# EAGLE library part HEADER_POS14_? (library con-molex-micro-fit-3_0)
Molex - Micro-Fit 3.0 Series connector, 3.00mm (0.118") pitch header, 14 positions.
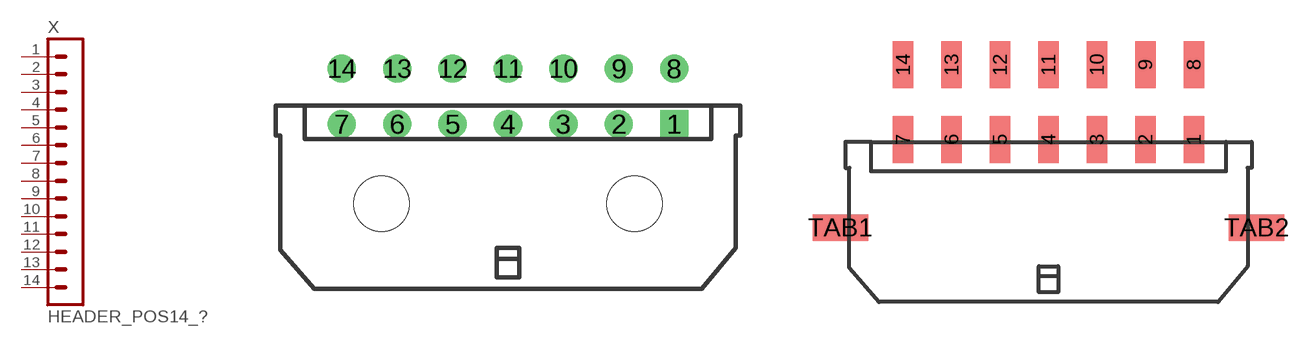
[diagram p7: symbol with the pads of 43045-1400; footprints 43045-1400, 43045-1409]

Designator prefix X

## HEADER_POS14_43045-1400  [43045-1400]
1  1  pas
2  2  pas
3  3  pas
4  4  pas
5  5  pas
6  6  pas
7  7  pas
8  8  pas
9  9  pas
10  10  pas
11  11  pas
12  12  pas
13  13  pas
14  14  pas

## HEADER_POS14_43045-1409  [43045-1409]
Pads as for 43045-1400

## HEADER_POS14_43045-1406  [43045-1406]
Pads as for 43045-1400

## HEADER_POS14_43045-1412  [43045-1412]
Pads as for 43045-1400

## HEADER_POS14_43045-1415  [43045-1415]
Pads as for 43045-1400

## HEADER_POS14_43045-1418  [43045-1418]
Pads as for 43045-1400

## HEADER_POS14_44914-1401  [44914-1401]
Pads as for 43045-1400

## HEADER_POS14_44769-1401  [44769-1401]
Pads as for 43045-1400

## HEADER_POS14_44432-1401  [44432-1401]
Pads as for 43045-1400

## HEADER_POS14_44428-1401  [44428-1401]
Pads as for 43045-1400

## HEADER_POS14_44764-1401  [44764-1401]
Pads as for 43045-1400

## Footprint 43045-1400 (pad centres in mm)
Molex Micro-Fit 3.0 - Header Shrouded, Thru hole, Right Angle; P/N: SD-43045-1400, SD-43045-1401, SD-43045-1402 http://www.molex.com/pdm_docs/sd/430450200_sd.pdf
drill 1.02 square: 1 9,4.32
drill 1.02: 2 6,4.32; 3 3,4.32; 4 0,4.32; 5 -3,4.32; 6 -6,4.32; 7 -9,4.32; 8 9,7.32; 9 6,7.32; 10 3,7.32; 11 0,7.32; 12 -3,7.32; 13 -6,7.32; 14 -9,7.32
hole 3 at 6.85,0
hole 3 at -6.85,0

## Footprint 43045-1409 (pad centres in mm)
Molex Micro-Fit 3.0 - Header Shrouded, Surface mount, Right Angle, Solderable tabs; P/N: SD-43045-1409, SD-43045-1410, SD-43045-1411 http://www.molex.com/pdm_docs/sd/430450209_sd.pdf
smd 1.27 x 2.92: 1 9,5.47; 2 6,5.47; 3 3,5.47; 4 0,5.47; 5 -3,5.47; 6 -6,5.47; 7 -9,5.47; 8 9,10.1; 9 6,10.1; 10 3,10.1; 11 0,10.1; 12 -3,10.1; 13 -6,10.1; 14 -9,10.1
smd 3.43 x 1.65: TAB1 -12.88,0; TAB2 12.88,0

## Footprint 43045-1406 (pad centres in mm)
Molex Micro-Fit 3.0 - Header Shrouded, Surface mount, Right Angle, Solderable Retention clips; P/N: SD-43045-1406, SD-43045-1407, SD-43045-1408 http://www.molex.com/pdm_docs/sd/430450206_sd.pdf
smd 1.27 x 2.92: 1 9,5.47; 2 6,5.47; 3 3,5.47; 4 0,5.47; 5 -3,5.47; 6 -6,5.47; 7 -9,5.47; 8 9,10.1; 9 6,10.1; 10 3,10.1; 11 0,10.1; 12 -3,10.1; 13 -6,10.1; 14 -9,10.1
hole 2.41 at -11.15,0
hole 2.41 at 11.15,0

## Footprint 43045-1412 (pad centres in mm)
Molex Micro-Fit 3.0 - Header Shrouded, Thru hole, Vertical, with Pegs; P/N: SD-43045-1412, SD-43045-1413, SD-43045-1414 http://www.molex.com/pdm_docs/sd/430450212_sd.pdf
drill 1.02 square: 1 9,0
drill 1.02: 2 6,0; 3 3,0; 4 0,0; 5 -3,0; 6 -6,0; 7 -9,0; 8 9,3; 9 6,3; 10 3,3; 11 0,3; 12 -3,3; 13 -6,3; 14 -9,3
hole 1.02 at 12,3.94
hole 1.02 at -12,3.94

## Footprint 43045-1415 (pad centres in mm)
Molex Micro-Fit 3.0 - Header Shrouded, Surface mount, Vertical, with Solderable Retention Clips; P/N: SD-43045-1415, SD-43045-1416, SD-43045-1417 http://www.molex.com/pdm_docs/sd/430450215_sd.pdf
smd 1.27 x 2.54: 1 9,-4.7; 2 6,-4.7; 3 3,-4.7; 4 0,-4.7; 5 -3,-4.7; 6 -6,-4.7; 7 -9,-4.7; 8 9,4.7; 9 6,4.7; 10 3,4.7; 11 0,4.7; 12 -3,4.7; 13 -6,4.7; 14 -9,4.7
hole 2.41 at -11.15,0
hole 2.41 at 11.15,0

## Footprint 43045-1418 (pad centres in mm)
Molex Micro-Fit 3.0 - Header Shrouded, Surface mount, Vertical, with Solder Tabs; P/N: SD-43045-1418, SD-43045-1419, SD-43045-1420 http://www.molex.com/pdm_docs/sd/430450218_sd.pdf
smd 1.27 x 2.54: 1 9,-4.7; 2 6,-4.7; 3 3,-4.7; 4 0,-4.7; 5 -3,-4.7; 6 -6,-4.7; 7 -9,-4.7; 8 9,4.7; 9 6,4.7; 10 3,4.7; 11 0,4.7; 12 -3,4.7; 13 -6,4.7; 14 -9,4.7
smd 3.43 x 1.65: CLIP1 -12.88,0; CLIP2 12.88,0

## Footprint 44914-1401 (pad centres in mm)
Molex Micro-Fit 3.0 - Header Shrouded, Thru hole, Vertical, Press-fit, with Pegs; P/N: SD-44914-1401, SD-44914-1402, SD-44914-1403 http://www.molex.com/pdm_docs/sd/449140201_sd.pdf
drill 1.09 square: 1 9,0
drill 1.09: 2 6,0; 3 3,0; 4 0,0; 5 -3,0; 6 -6,0; 7 -9,0; 8 9,3; 9 6,3; 10 3,3; 11 0,3; 12 -3,3; 13 -6,3; 14 -9,3
hole 1.02 at 12,3.94
hole 1.02 at -12,3.94

## Footprint 44769-1401 (pad centres in mm)
Molex Micro-Fit 3.0 - Board-to-Board BMI (Blind Mate Interface), Receptacle Vertical, Thru hole; P/N: SD-44769-1401, SD-44769-1402, SD-44769-1403 http://www.molex.com/pdm_docs/sd/447690401_sd.pdf
drill 1.02 square: 1 -9,0
drill 1.02: 2 -6,0; 3 -3,0; 4 0,0; 5 3,0; 6 6,0; 7 9,0; 8 -9,3; 9 -6,3; 10 -3,3; 11 0,3; 12 3,3; 13 6,3; 14 9,3
hole 2.36 at 12,3
hole 2.36 at -12,3

## Footprint 44432-1401 (pad centres in mm)
Molex Micro-Fit 3.0 - Board-to-Board BMI (Blind Mate Interface), Header Vertical, Thru hole, with Pegs; P/N: SD-44432-1401, SD-44432-1402, SD-44432-1403 http://www.molex.com/pdm_docs/sd/444320401_sd.pdf
drill 1.02 square: 1 9,-3
drill 1.02: 2 6,-3; 3 3,-3; 4 0,-3; 5 -3,-3; 6 -6,-3; 7 -9,-3; 8 9,0; 9 6,0; 10 3,0; 11 0,0; 12 -3,0; 13 -6,0; 14 -9,0
hole 1.57 at -13.5,1.45
hole 1.57 at 13.5,1.45

## Footprint 44428-1401 (pad centres in mm)
Molex Micro-Fit 3.0 - Board-to-Board BMI (Blind Mate Interface), Header Right Angle, Thru hole, with Pegs; P/N: SD-44428-1401, SD-44428-1402, SD-44428-1403 http://www.molex.com/pdm_docs/sd/444280401_sd.pdf
drill 1.02 square: 1 9,0
drill 1.02: 2 6,0; 3 3,0; 4 0,0; 5 -3,0; 6 -6,0; 7 -9,0; 8 9,3; 9 6,3; 10 3,3; 11 0,3; 12 -3,3; 13 -6,3; 14 -9,3
hole 3 at 6.84,-8.53
hole 3 at -6.84,-8.53

## Footprint 44764-1401 (pad centres in mm)
Molex Micro-Fit 3.0 - Board-to-Board BMI (Blind Mate Interface), Receptacle, Right Angle, Thru hole; P/N: SD-44764-1401, SD-44764-1402, SD-44764-1403 http://www.molex.com/pdm_docs/sd/447640401_sd.pdf
drill 1.02 square: 1 -9,0
drill 1.02: 2 -6,0; 3 -3,0; 4 0,0; 5 3,0; 6 6,0; 7 9,0; 8 -9,3; 9 -6,3; 10 -3,3; 11 0,3; 12 3,3; 13 6,3; 14 9,3
hole 2.36 at -7.5,-3.05
hole 2.36 at 7.5,-3.05